# Altium integrated library Actel Fusion.IntLib: 336 symbols (part 10 of 72)
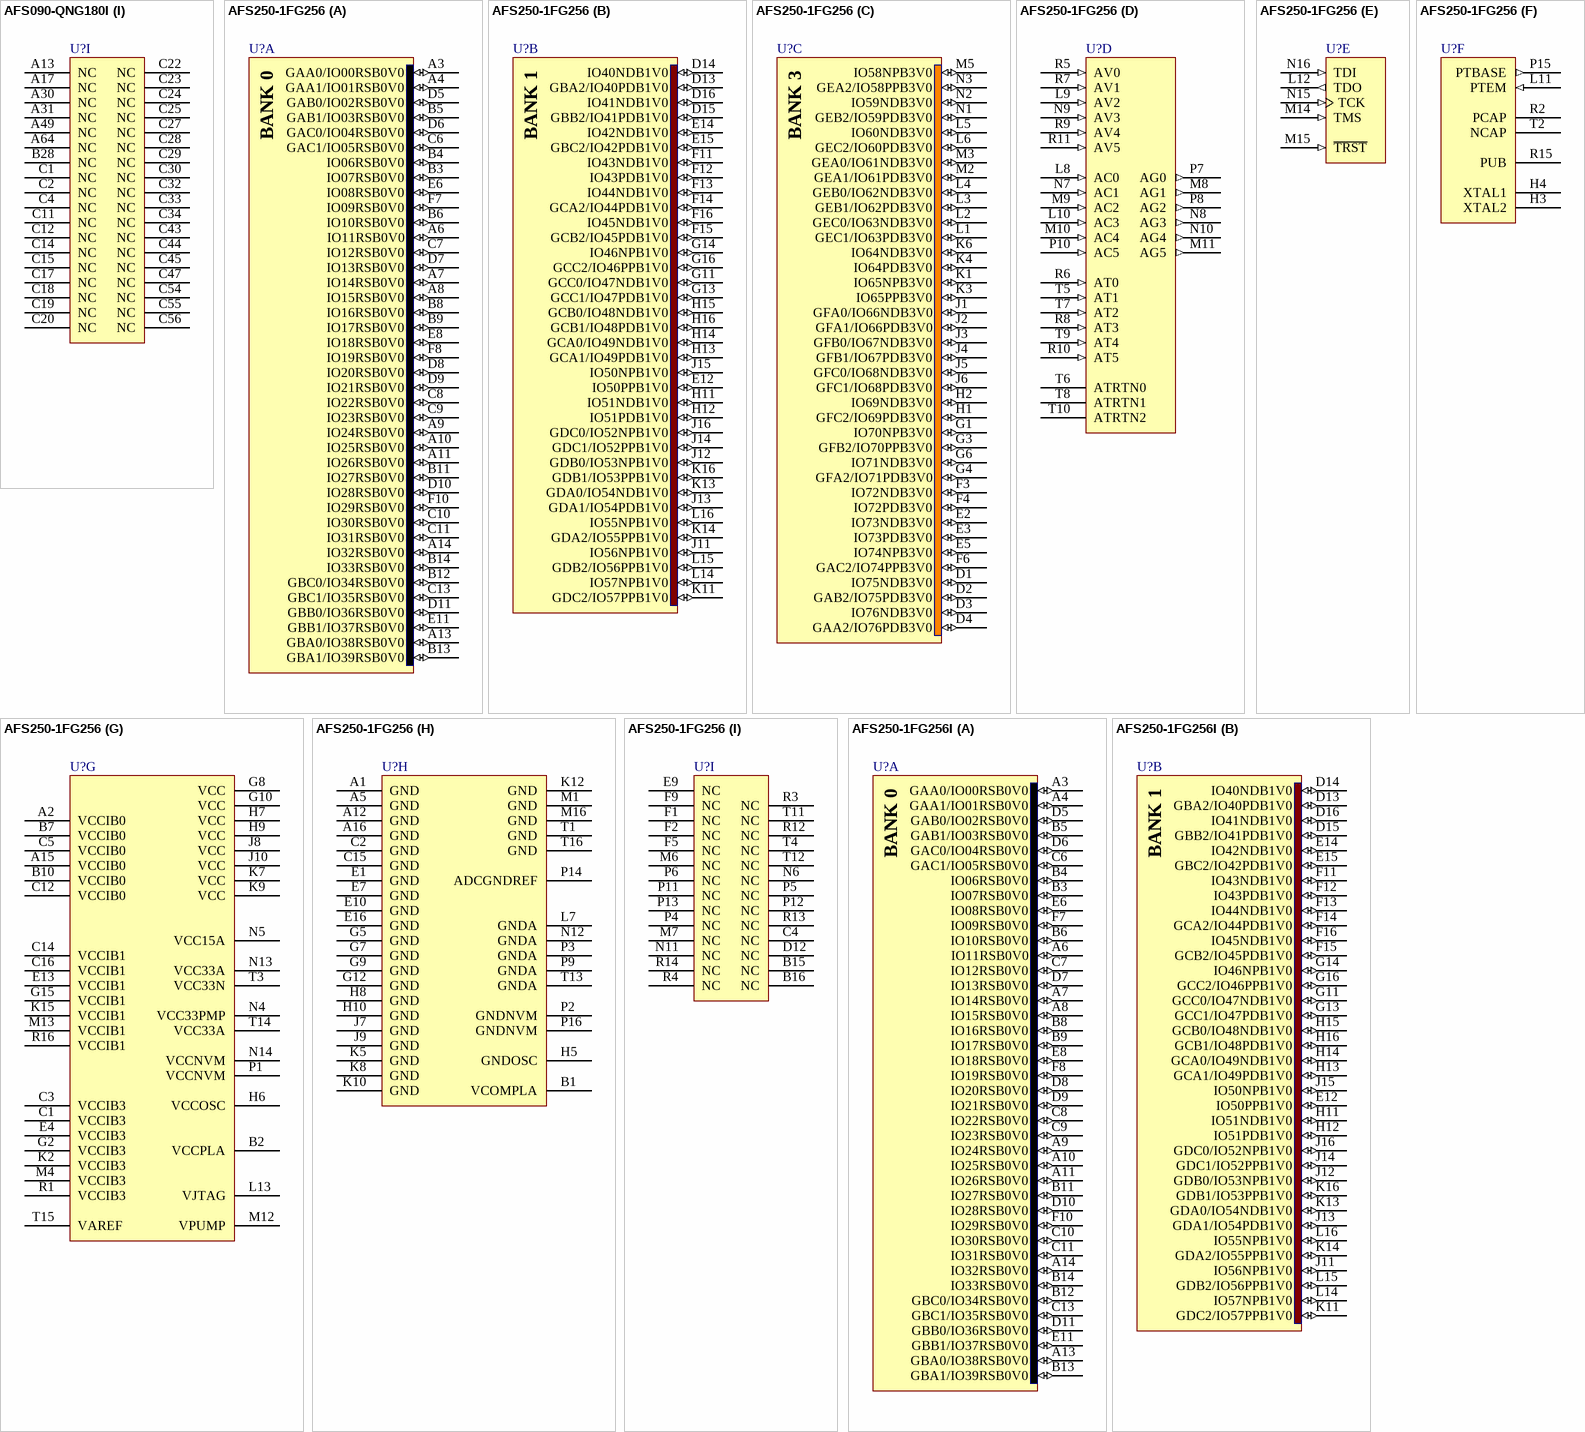
[diagram p397: symbols AFS090-QNG180I to AFS250-1FG256I]

## AFS090-QNG180I
designator U?
3.3V Fusion Mixed Signal Flash FPGA, 90,000 System Gates, 180-Pin Quad Flat No Lead, Industrial Grade, Pb-Free; Published: 30-Jun-2006; LatestRevisionDate: 14-Dec-2007; LatestRevisionNote: Pin B29 renamed to "VCC33A".; DatasheetVersion: ver1.7, Oct-2008; PackageVersion: v11.0, Feb-2009; PackageReference: QN180; Publisher: Altium Limited; PackageDescription: 180-Pin Quad Flat Pack No-Leads (QN180); ComponentLink1Description: Manufacturer Link; ComponentLink1URL: http://www.actel.com/products/fusion/; ComponentLink2Description: Datasheet; ComponentLink2URL: http://www.actel.com/documents/Fusion_DS.pdf; ComponentLink3Description: Packaging Specification; ComponentLink3URL: http://www.actel.com/documents/PckgMechDrwngs.pdf
footprint QN180 (QFN, 180-Leads, Body 10x10mm, Pitch 0.5mm)
3D model AFS090-QN180 (180-Pin Quad Flat Pack No-Leads (QN180))
signal-integrity model AFS090_QN180 (Fusion)
part A pins: A50 GBA0/IO29RSB0V0 (io), A52 GBB0/IO27RSB0V0 (io), A53 GBC1/IO26RSB0V0 (io), A54 IO24RSB0V0 (io), A55 IO21RSB0V0 (io), A57 IO15RSB0V0 (io), A58 IO10RSB0V0 (io), A59 IO07RSB0V0 (io), A60 GAC0/IO04RSB0V0 (io), A61 GAB1/IO03RSB0V0 (io), A63 GAA1/IO01RSB0V0 (io), B47 GBA1/IO30RSB0V0 (io), B48 GBB1/IO28RSB0V0 (io), B50 GBC0/IO25RSB0V0 (io), B51 IO23RSB0V0 (io), B52 IO20RSB0V0 (io), B54 IO11RSB0V0 (io), B55 IO08RSB0V0 (io), B56 GAC1/IO05RSB0V0 (io), B58 GAB0/IO02RSB0V0 (io), B59 GAA0/IO00RSB0V0 (io), C48 IO22RSB0V0 (io), C50 IO13RSB0V0 (io), C51 IO09RSB0V0 (io), C52 IO06RSB0V0 (io)
part B pins: A41 GDB1/IO39PPB1V0 (io), A42 GDC1/IO38PDB1V0 (io), A44 GCB0/IO35NPB1V0 (io), A45 GCC1/IO34PDB1V0 (io), A47 GBC2/IO32PPB1V0 (io), B38 GDB2/IO41PSB1V0 (io), B39 GDC0/IO38NDB1V0 (io), B41 GCA1/IO36PDB1V0 (io), B42 GCC0/IO34NDB1V0 (io), B43 GCB2/IO33PSB1V0 (io), B45 GBA2/IO31PDB1V0 (io), C36 GDB0/IO39NPB1V0 (io), C37 GDA1/IO37NSB1V0 (io), C38 GCA0/IO36NDB1V0 (io), C39 GCB1/IO35PPB1V0 (io), C41 GCA2/IO32NPB1V0 (io), C42 GBB2/IO31NDB1V0 (io)
part C pins: A3 GAB2/IO52NDB3V0 (io), A4 GFA2/IO51NDB3V0 (io), A5 GFC2/IO50NDB3V0 (io), A7 GFA1/IO47PPB3V0 (io), A8 GEB0/IO45NDB3V0 (io), A11 GEC2/IO43PPB3V0 (io), A12 IO43NPB3V0 (io), B2 GAA2/IO52PDB3V0 (io), B3 GAC2/IO51PDB3V0 (io), B4 GFB2/IO50PDB3V0 (io), B6 GFC0/IO49NDB3V0 (io), B7 GEB1/IO45PDB3V0 (io), B10 GEA0/IO44NDB3V0 (io), B11 GEB2/IO42PDB3V0 (io), C5 GFC1/IO49PDB3V0 (io), C6 GFA0/IO47NPB3V0 (io), C9 GEA1/IO44PDB3V0 (io), C10 GEA2/IO42NDB3V0 (io)
part D pins: A18 AV0 (in) "Analog voltage pad 0.", A19 AG0 (out) "Analog gate driver pad 0.", A20 ATRTN0 "Temperature monitor return 0.", A21 AG1 (out) "Analog gate driver pad 1.", A22 AC1 (in) "Analog current pad 1.", A23 AV2 (in) "Analog voltage pad 2.", A24 AT2 (in) "Analog temperature pad 2.", A25 AT3 (in) "Analog temperature pad 3.", A26 AC3 (in) "Analog current pad 3.", A27 AV4 (in) "Analog voltage pad 4.", A28 AC4 (in) "Analog current pad 4.", A29 AT4 (in) "Analog temperature pad 4.", B18 AC0 (in) "Analog current pad 0.", B19 AT0 (in) "Analog temperature pad 0.", B20 AT1 (in) "Analog temperature pad 1.", B21 AV1 (in) "Analog voltage pad 1.", B22 AC2 (in) "Analog current pad 2.", B23 ATRTN1 "Temperature monitor return 1.", B24 AG3 (out) "Analog gate driver pad 3.", B25 AV3 (in) "Analog voltage pad 3.", B26 AG4 (out) "Analog gate driver pad 4.", B27 ATRTN2 "Temperature monitor return 2.", C21 AG2 (out) "Analog gate driver pad 2."
part E pins: A38 TDI (in), A39 TDO (out), B35 TCK (in), B36 TMS (in), B37 ~{TRST} (in)
part F pins: A9 XTAL1 "Input to crystal oscillator - If using external RC network or clock input, XTAL1 should be used and XTAL2 left unconnected.", A15 PCAP "POSITIVE CAPACITOR - where the positive terminal of the charge pump capacitor is connected.", A35 PTBASE (out) "PASS TRANSISTOR BASE - The control signal of the voltage regulator.", B9 XTAL2 "Input to crystal oscillator - If using external RC network or clock input, XTAL1 should be used and XTAL2 left unconnected.", B15 NCAP "NEGATIVE CAPACITOR - where the negative terminal of the charge pump capacitor is connected.", B31 PUB "Power up bar - for the external momentary switch which turns on the 1.5V regulator.", B32 PTEM (in) "PASS TRANSISTOR EMITTER - The feedback input of the voltage regulator."
part G pins: A2 VCCIB3 (power) "Quiet supply voltage to the input buffers of bank 3.", A6 VCCIB3 (power), A16 VCC33PMP (power) "3.3V clean analog power supply input for use by the analog charge pump.", A33 VCC33A (power), A36 VCCNVM (power) "1.5V power supply used by the Fusion device's Flash memory block module(s).", A37 VPUMP (power), A40 VJTAG (power), A43 VCC (power), A46 VCCIB1 (power), A48 VCCIB1 (power) "Quiet supply voltage to the input buffers of bank 1.", A51 VCCIB0 (power), A56 VCCIB0 (power), A62 VCC (power), B5 VCC (power), B8 VCCOSC (power), B12 VCC (power), B13 VCCNVM (power) "1.5V power supply used by the Fusion device's Flash memory block module(s).", B14 VCC15A (power), B16 VCC33N (power) "-3.3V output from the voltage converter. A 2.2µF capacitor must be connected from this pin to ground.", B29 VCC33A (power) "Analog power pin for the analog power supply low pass filter. An external 1µF capacitor should be connected between this pin and ground.", B30 VAREF (power) "Analog reference voltage to be used by analog to digital converter.", B34 VCC (power), B40 VCCIB1 (power), B44 VCC (power), B49 VCC (power), B53 VCC (power), B57 VCCIB0 (power), B60 VCCPLA (power), C7 VCCIB3 (power)
part H pins: A1 GNDQ (power), A10 GNDOSC (power) "Oscillator ground.", A14 GNDNVM (power) "Flash memory ground.", A32 ADCGNDREF (power) "Analog ground reference used by the ADC.", A34 GNDA (power), B1 VCOMPLA (power), B17 GNDAQ (power), B33 GNDNVM (power) "Flash memory ground.", B46 GNDQ (power), C3 GND (power), C8 GND (power), C13 GND (power), C16 GNDA (power), C26 GNDAQ (power), C31 GND (power), C35 GND (power), C40 GND (power), C46 GND (power), C49 GND (power), C53 GND (power)
part I pins: A13 NC, A17 NC, A30 NC, A31 NC, A49 NC, A64 NC, B28 NC, C1 NC, C2 NC, C4 NC, C11 NC, C12 NC, C14 NC, C15 NC, C17 NC, C18 NC, C19 NC, C20 NC, C22 NC, C23 NC, C24 NC, C25 NC, C27 NC, C28 NC, C29 NC, C30 NC, C32 NC, C33 NC, C34 NC, C43 NC, C44 NC, C45 NC, C47 NC, C54 NC, C55 NC, C56 NC
part A text: BANK 0
part B text: BANK 1
part C text: BANK 3